# Altium schematic symbol library KX1_DB.SCHLIB: 19 symbols
Pins are listed as number, name and electrical type; pins without a type are passive.

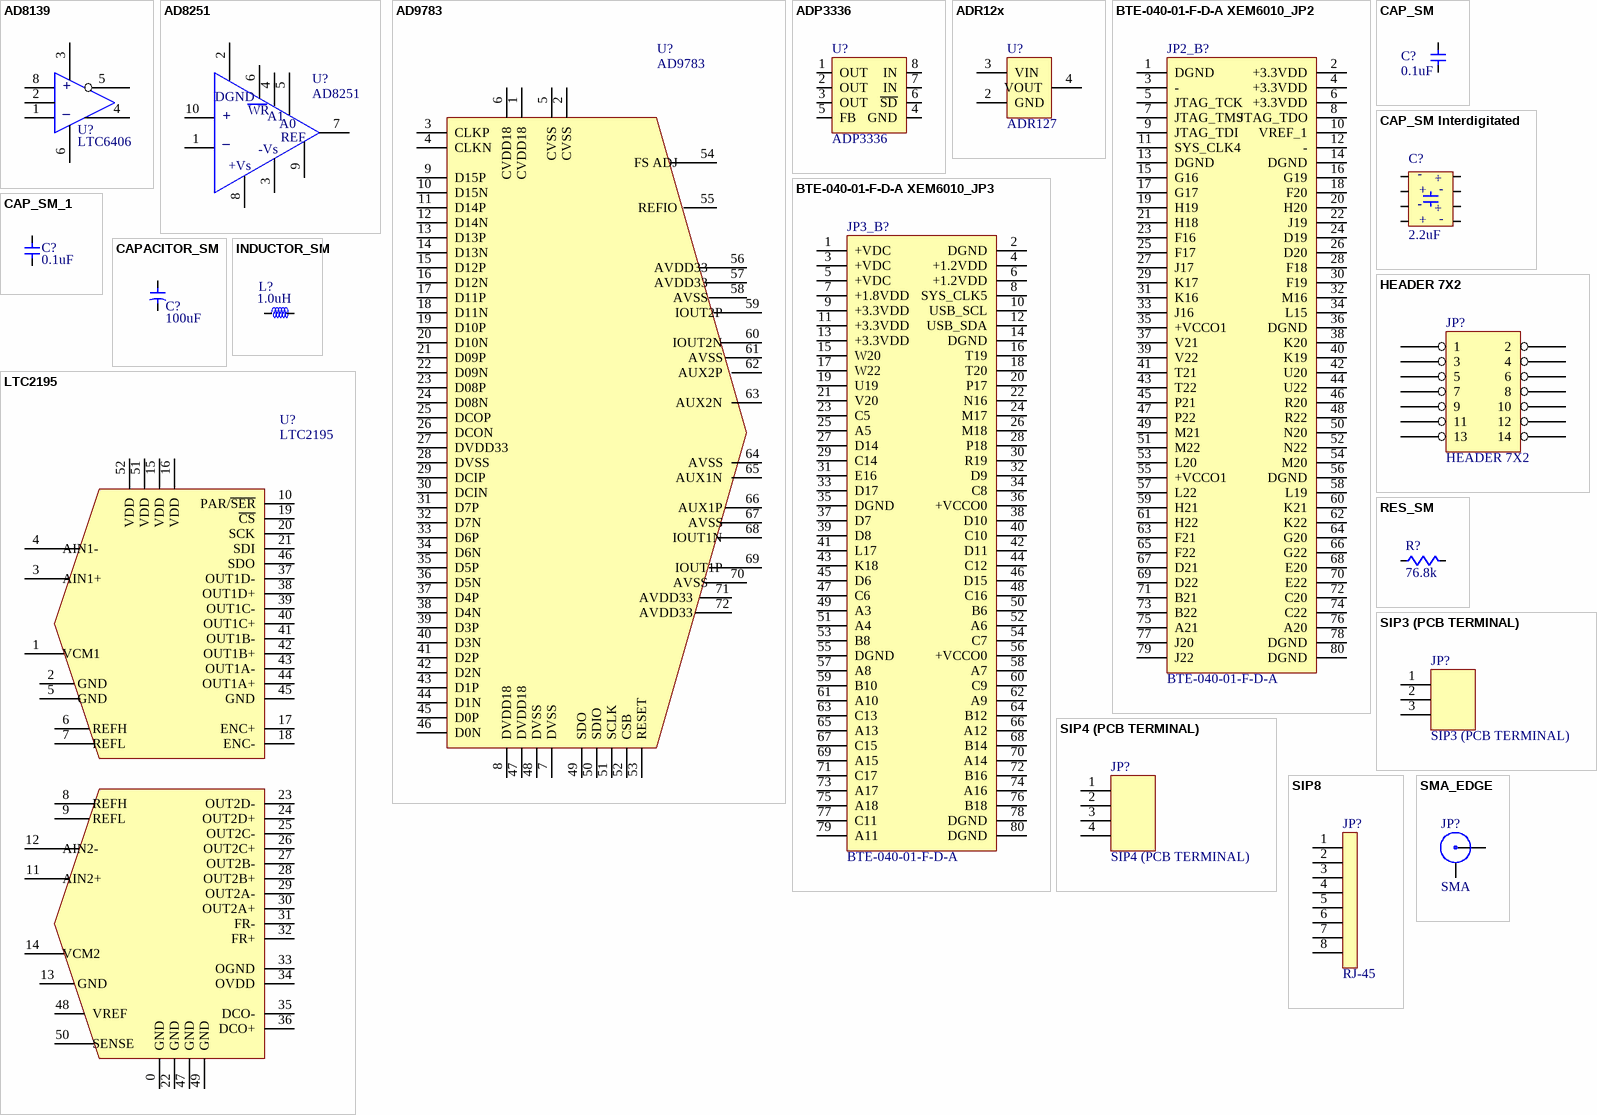
[diagram p0: symbols AD8139 to SMA_EDGE]

## AD8139
designator U?, comment LTC6406
Differential ADC Driver; Supplier 1: Digi-Key; Supplier Part Number 1: LTC6406CMS8E#PBF-ND
footprint soic8
footprint MSOP08
pins: 1, 2, 3, 4, 5, 6, 8
text: +; _

## AD8251
designator U?
IC AMP INST ICMOS LDRIFT 10MSOP; Supplier 1: Digi-Key; Supplier Part Number 1: AD8251ARMZ-ND
footprint MSOP10sm (AD8351)
pins: 1, 2, 3, 4, 5, 6, 7, 8, 9, 10
text: DGND; WR; +; A1; A0; _; REF; -Vs; +Vs

## AD9783
designator U?
DAC LVDS DUAL16BIT 500MSPS; Supplier 1: Digi-Key; Supplier Part Number 1: AD9783BCPZ-ND
footprint LFCSP72
pins: 1 CVDD18, 2 CVSS, 3 CLKP, 4 CLKN, 5 CVSS, 6 CVDD18, 7 DVSS, 8 DVDD18, 9 D15P, 10 D15N, 11 D14P, 12 D14N, 13 D13P, 14 D13N, 15 D12P, 16 D12N, 17 D11P, 18 D11N, 19 D10P, 20 D10N, 21 D09P, 22 D09N, 23 D08P, 24 D08N, 25 DCOP, 26 DCON, 27 DVDD33, 28 DVSS, 29 DCIP, 30 DCIN, 31 D7P, 32 D7N, 33 D6P, 34 D6N, 35 D5P, 36 D5N, 37 D4P, 38 D4N, 39 D3P, 40 D3N, 41 D2P, 42 D2N, 43 D1P, 44 D1N, 45 D0P, 46 D0N, 47 DVDD18, 48 DVSS, 49 SDO, 50 SDIO, 51 SCLK, 52 CSB, 53 RESET, 54 FS ADJ, 55 REFIO, 56 AVDD33, 57 AVDD33, 58 AVSS, 59 IOUT2P, 60 IOUT2N, 61 AVSS, 62 AUX2P, 63 AUX2N, 64 AVSS, 65 AUX1N, 66 AUX1P, 67 AVSS, 68 IOUT1N, 69 IOUT1P, 70 AVSS, 71 AVDD33, 72 AVDD33

## ADP3336
designator U?
regulator; Manufacturer: Analog Devices Inc; Manufacturer Part Number: ADP3336ARMZ-REEL7; Regulator Topology: Positive Adjustable; Voltage - Output: 1.5 V ~ 10 V; Voltage - Input: 2.6 V ~ 12 V; Voltage - Dropout (Typical): 0.2V @ 500mA; Number of Regulators: 1; Current - Output: 500mA; Supplier 1: Digi-Key; Supplier Part Number 1: ADP3336ARMZ-REEL7CT-ND; RoHS: RoHS Compliant; Category: Integrated Circuits (ICs); Stock 1: 10613; Pricing 1: 1=3.22, 25=2.484, 100=2.254, 250=2.024, 500=1.748 (USD); Current - Limit (Min): -; Operating Temperature: -40°C ~ 85°C; Mounting Type: Surface Mount; Package / Case: 8-TSSOP, 8-MSOP (0.118", 3.00mm Width); Supplier Device Package: 8-MSOP; Packaging: Cut Tape (CT); ComponentLink1URL: http://www.analog.com/static/imported-files/data_sheets/ADP3336.pdf; ComponentLink1Description: http://www.analog.com/static/imported-files/data_sheets/ADP3336.pdf
footprint MSOP08
pins: 1 OUT, 2 OUT, 3 OUT, 4 GND, 5 FB, 6 ~{SD}, 7 IN, 8 IN

## ADR12x
designator U?, comment ADR127
Voltage Reference; Manufacturer: Analog Devices Inc; Manufacturer Part Number: ADR127AUJZ-REEL7; Reference Type: Series, Precision; Voltage - Output: 1.25V; Tolerance: ±0.24%; Temperature Coefficient: 25ppm/°C; Voltage - Input: 2.7 V ~ 18 V; Number of Channels: 1; Current - Quiescent: 95µA; Current - Output: 5mA; Supplier 1: Digi-Key; Supplier Part Number 1: ADR127AUJZ-REEL7CT-ND; RoHS: RoHS Compliant; Category: Integrated Circuits (ICs); Stock 1: 17098; Pricing 1: 1=3.22, 25=2.484, 100=2.254, 250=2.024, 500=1.748 (USD); Current - Cathode: -; Operating Temperature: -40°C ~ 125°C; Mounting Type: Surface Mount; Package / Case: TSOT-23-6, TSOT-6; Supplier Device Package: TSOT-6; Packaging: Cut Tape (CT); ComponentLink1URL: http://www.analog.com/static/imported-files/Data_Sheets/ADR121_125_127.pdf; ComponentLink1Description: http://www.analog.com/static/imported-files/Data_Sheets/ADR121_125_127.pdf
footprint TSOT-6
pins: 1 NC hidden, 2 GND, 3 VIN, 4 VOUT, 5 NC hidden, 6 NC hidden

## BTE-040-01-F-D-A XEM6010_JP2
designator JP2_B?, comment BTE-040-01-F-D-A
Samtec Connector 0.8mm 80pin; Supplier 1: Newark; Supplier Part Number 1: 89M7080
footprint BTE-040-01-F-D-A (Samtec Surface Mount Micro Terminal Strip)
pins: 1 DGND, 2 +3.3VDD, 3 -, 4 +3.3VDD, 5 JTAG_TCK, 6 +3.3VDD, 7 JTAG_TMS, 8 JTAG_TDO, 9 JTAG_TDI, 10 VREF_1, 11 SYS_CLK4, 12 -, 13 DGND, 14 DGND, 15 G16, 16 G19, 17 G17, 18 F20, 19 H19, 20 H20, 21 H18, 22 J19, 23 F16, 24 D19, 25 F17, 26 D20, 27 J17, 28 F18, 29 K17, 30 F19, 31 K16, 32 M16, 33 J16, 34 L15, 35 +VCCO1, 36 DGND, 37 V21, 38 K20, 39 V22, 40 K19, 41 T21, 42 U20, 43 T22, 44 U22, 45 P21, 46 R20, 47 P22, 48 R22, 49 M21, 50 N20, 51 M22, 52 N22, 53 L20, 54 M20, 55 +VCCO1, 56 DGND, 57 L22, 58 L19, 59 H21, 60 K21, 61 H22, 62 K22, 63 F21, 64 G20, 65 F22, 66 G22, 67 D21, 68 E20, 69 D22, 70 E22, 71 B21, 72 C20, 73 B22, 74 C22, 75 A21, 76 A20, 77 J20, 78 DGND, 79 J22, 80 DGND

## BTE-040-01-F-D-A XEM6010_JP3
designator JP3_B?, comment BTE-040-01-F-D-A
Samtec Connector 0.8mm 80pin; Supplier 1: Newark; Supplier Part Number 1: 89M7080
footprint BTE-040-01-F-D-A (Samtec Surface Mount Micro Terminal Strip)
pins: 1 +VDC, 2 DGND, 3 +VDC, 4 +1.2VDD, 5 +VDC, 6 +1.2VDD, 7 +1.8VDD, 8 SYS_CLK5, 9 +3.3VDD, 10 USB_SCL, 11 +3.3VDD, 12 USB_SDA, 13 +3.3VDD, 14 DGND, 15 W20, 16 T19, 17 W22, 18 T20, 19 U19, 20 P17, 21 V20, 22 N16, 23 C5, 24 M17, 25 A5, 26 M18, 27 D14, 28 P18, 29 C14, 30 R19, 31 E16, 32 D9, 33 D17, 34 C8, 35 DGND, 36 +VCCO0, 37 D7, 38 D10, 39 D8, 40 C10, 41 L17, 42 D11, 43 K18, 44 C12, 45 D6, 46 D15, 47 C6, 48 C16, 49 A3, 50 B6, 51 A4, 52 A6, 53 B8, 54 C7, 55 DGND, 56 +VCCO0, 57 A8, 58 A7, 59 B10, 60 C9, 61 A10, 62 A9, 63 C13, 64 B12, 65 A13, 66 A12, 67 C15, 68 B14, 69 A15, 70 A14, 71 C17, 72 B16, 73 A17, 74 A16, 75 A18, 76 B18, 77 C11, 78 DGND, 79 A11, 80 DGND

## CAP_SM
designator C?, comment 0.1uF
capacitor; Manufacturer: Kemet; Manufacturer Part Number: C0603C104K3RACTU; Capacitance: 0.1µF; Temperature Coefficient: X7R; Tolerance: ±10%; Voltage - Rated: 25V; Applications: General Purpose; Category: Capacitors; ComponentLink1Description: http://www.kemet.com/datasheets&C0603C104K3RACTU; ComponentLink1URL: http://www.kemet.com/datasheets&C0603C104K3RACTU; Features: -; Lead Spacing: -; Lead Style: -; Mounting Type: Surface Mount, MLCC; Operating Temperature: -55°C ~ 125°C; Package / Case: 0603 (1608 Metric); Packaging: Cut Tape (CT); Pricing 1: 10=0.075, 100=0.027, 250=0.01952, 500=0.0144, 1000=0.00975 (USD); Ratings: -; RoHS: RoHS Compliant; Size / Dimension: 0.063" L x 0.032" W (1.60mm x 0.80mm); Stock 1: 2338960; Supplier 1: Digi-Key; Supplier Part Number 1: 399-1281-1-ND; Thickness: 0.80mm
footprint 1206
footprint 0603w
footprint 0603
pins: 1, 2

## CAP_SM Interdigitated
designator C?, comment 2.2uF
INTERDIGITATED capacitor; Manufacturer: TDK Corporation; Manufacturer Part Number: CLLE1AX7S0G225M/0.95; Capacitance: 2.2µF; Voltage - Rated: 4V; Tolerance: ±20%; Temperature Coefficient: X7S; Supplier 1: Digi-Key; Supplier Part Number 1: 445-3406-1-ND; RoHS: RoHS Compliant; Category: Capacitors; Stock 1: 11249; Pricing 1: 1=0.68, 10=0.54, 100=0.325, 250=0.24376, 500=0.208, 1000=0.1625 (USD); Mounting Type: Surface Mount, MLCC; Operating Temperature: -55°C ~ 125°C; Applications: General Purpose; Ratings: -; Package / Case: 0805 (2012 Metric); Size / Dimension: 0.079" L x 0.049" W (2.00mm x 1.25mm); Height: -; Thickness: 0.037" (0.95mm); Lead Spacing: -; Features: Low ESL (Multi-Terminal); Packaging: Cut Tape (CT); Lead Style: -; ComponentLink1URL: http://www.tdk.com/pdf/uli_A11.pdf; ComponentLink1Description: http://www.tdk.com/pdf/uli_A11.pdf
footprint 0805 CLL (Interdigitated Capacitor)
pins: 1, 2, 3, 4, 5, 6, 7, 8
text: +

## CAP_SM_1
designator C?, comment 0.1uF
capacitor; Manufacturer: Kemet; Manufacturer Part Number: C0603C104K3RACTU; Capacitance: 0.1µF; Temperature Coefficient: X7R; Tolerance: ±10%; Voltage - Rated: 25V; Applications: General Purpose; Category: Capacitors; ComponentLink1Description: http://www.kemet.com/datasheets&C0603C104K3RACTU; ComponentLink1URL: http://www.kemet.com/datasheets&C0603C104K3RACTU; Features: -; Lead Spacing: -; Lead Style: -; Mounting Type: Surface Mount, MLCC; Operating Temperature: -55°C ~ 125°C; Package / Case: 0603 (1608 Metric); Packaging: Cut Tape (CT); Pricing 1: 10=0.075, 100=0.027, 250=0.01952, 500=0.0144, 1000=0.00975 (USD); Ratings: -; RoHS: RoHS Compliant; Size / Dimension: 0.063" L x 0.032" W (1.60mm x 0.80mm); Stock 1: 2338960; Supplier 1: Digi-Key; Supplier Part Number 1: 399-1281-1-ND; Thickness: 0.80mm
footprint 1206
footprint 0603w
pins: 1, 2

## CAPACITOR_SM
designator C?, comment 100uF
capacitor; Manufacturer: TDK Corporation; Manufacturer Part Number: C3216X5R0J107M; Capacitance: 100µF; Voltage - Rated: 6.3V; Tolerance: ±20%; Temperature Coefficient: X5R; Supplier 1: Digi-Key; Supplier Part Number 1: 445-6008-1-ND; RoHS: RoHS Compliant; Category: Capacitors; Stock 1: 10697; Pricing 1: 1=1.24, 10=1.034, 100=0.759, 250=0.66, 500=0.616, 1000=0.484 (USD); Mounting Type: Surface Mount, MLCC; Operating Temperature: -55°C ~ 85°C; Applications: General Purpose; Ratings: -; Package / Case: 1206 (3216 Metric); Size / Dimension: 0.126" L x 0.063" W (3.20mm x 1.60mm); Height: -; Thickness: 0.071" (1.80mm); Lead Spacing: -; Features: Low ESR; Packaging: Cut Tape (CT); Lead Style: -; ComponentLink1URL: http://www.tdk.com/pdf/general_A11.pdf; ComponentLink1Description: http://www.tdk.com/pdf/general_A11.pdf
footprint 1206
pins: 1, 2

## HEADER 7X2
designator JP?
14 pin 2mm IDC connector; Supplier 1: Digi-Key; Supplier Part Number 1: WM18641-ND
footprint IDC14 SM 2MM (MOLEX 87832-1420)
pins: 1, 2, 3, 4, 5, 6, 7, 8, 9, 10, 11, 12, 13, 14

## INDUCTOR_SM
designator L?, comment 1.0uH
inductor; Manufacturer: Murata Electronics North America; Manufacturer Part Number: LQM21FN1R0N00D; Current: 220mA; DC Resistance (DCR): 260 mOhm Max; Frequency - Test: 1MHz; Inductance: 1µH; Self Resonant Freq: 105MHz; Shielding: Shielded; Tolerance: ±30%; Current - Saturation: -; Current - Temperature Rise: -; Mounting Type: Surface Mount; Operating Temperature: -40°C ~ 85°C; Package / Case: 0805 (2012 Metric); Packaging: Cut Tape (CT); Q @ Freq: -; RoHS: RoHS Compliant; Type: -; Supplier 1: Digi-Key; Supplier Part Number 1: 490-4026-1-ND; Stock 1: 0; Pricing 1: 1=0.11, 10=0.104, 50=0.0972, 100=0.0907, 500=0.07122, 1000=0.05828 (USD); Material - Core: -
footprint 1008 (sm inductor)
footprint 1206
footprint 1210
footprint 0805
pins: 1, 2

## LTC2195
designator U?
16 bit, low power, dual ADC; Supplier 1: Digi-Key; Supplier Part Number 1: LTC2195CUKG#PBF-ND
footprint UKG - QFN52
pins: 0 GND, 1 VCM1, 2 GND, 3 AIN1+, 4 AIN1-, 5 GND, 6 REFH, 7 REFL, 8 REFH, 9 REFL, 10 PAR/~{SER}, 11 AIN2+, 12 AIN2-, 13 GND, 14 VCM2, 15 VDD, 16 VDD, 17 ENC+, 18 ENC-, 19 ~{CS}, 20 SCK, 21 SDI, 22 GND, 23 OUT2D-, 24 OUT2D+, 25 OUT2C-, 26 OUT2C+, 27 OUT2B-, 28 OUT2B+, 29 OUT2A-, 30 OUT2A+, 31 FR-, 32 FR+, 33 OGND, 34 OVDD, 35 DCO-, 36 DCO+, 37 OUT1D-, 38 OUT1D+, 39 OUT1C-, 40 OUT1C+, 41 OUT1B-, 42 OUT1B+, 43 OUT1A-, 44 OUT1A+, 45 GND, 46 SDO, 47 GND, 48 VREF, 49 GND, 50 SENSE, 51 VDD, 52 VDD

## RES_SM
designator R?, comment 76.8k
resistor; Manufacturer: Yageo; Manufacturer Part Number: RC0603FR-0776K8L; Power (Watts): 0.1W, 1/10W; Temperature Coefficient: ±100ppm/°C; Tolerance: ±1%; Supplier 1: Digi-Key; Supplier Part Number 1: 311-76.8KHRCT-ND; RoHS: RoHS Compliant; Category: Resistors; Stock 1: 91480; Pricing 1: 10=0.014, 50=0.0104, 100=0.0079, 250=0.00584, 500=0.00432, 1000=0.00288 (USD); Resistance (Ohms): 76.8K; Composition: Thick Film; Features: -; Size / Dimension: 0.063" L x 0.031" W (1.60mm x 0.80mm); Height: 0.018" (0.45mm); Number of Terminations: 2; Packaging: Cut Tape (CT); Package / Case: 0603 (1608 Metric); ComponentLink1URL: http://www.yageo.com/documents/recent/PYu-RC0603_51_RoHS_L_4.pdf; ComponentLink1Description: http://www.yageo.com/documents/recent/PYu-RC0603_51_RoHS_L_4.pdf
footprint 1206
footprint 0603w
pins: 1, 2

## SIP3 (PCB TERMINAL)
designator JP?
3 pin molex connector; Supplier 1: Digi-Key; Supplier Part Number 1: WM2745-ND
footprint PCBTERMINAL3
footprint SIP3MOLEX
pins: 1, 2, 3

## SIP4 (PCB TERMINAL)
designator JP?
4 pin molex connector; Manufacturer: Molex Inc; Connector Type: Header, Unshrouded; Number of Positions: 4; Number of Positions Loaded: All; Pitch: 0.100" (2.54mm); Supplier 1: Digi-Key; Supplier Part Number 1: WM2746-ND; Manufacturer Part Number: 22-29-2041; RoHS: RoHS Compliant; Category: Connectors, Interconnects; Stock 1: 6126; Pricing 1: 1=0.95, 10=0.664, 50=0.5124, 100=0.446, 250=0.3796, 500=0.36062, 1000=0.32266, 2500=0.25623, 5000=0.25243 (USD); Contact Type: Male Pin; Number of Rows: 1; Row Spacing: -; Contact Mating Length: 0.295" (7.49mm); Mounting Type: Through Hole; Termination: Solder; Fastening Type: Friction Lock; Features: -; Contact Finish: Gold; Contact Finish Thickness: 20µin (0.51µm); Color: White; Packaging: Bulk; ComponentLink1URL: http://www.molex.com/pdm_docs/sd/022292041_sd.pdf; ComponentLink1Description: http://www.molex.com/pdm_docs/sd/022292041_sd.pdf
footprint SIP4POWER
footprint SIP4MOLEX
pins: 1, 2, 3, 4

## SIP8
designator JP?, comment RJ-45
ethernet connector; Supplier 1: Digi-Key; Supplier Part Number 1: RJSSE-5080-ND
footprint Mod_jack_ethernet
footprint SMD_ETHERNET (Amphenol RJSSE-5080)
pins: 1, 2, 3, 4, 5, 6, 7, 8

## SMA_EDGE
designator JP?, comment SMA
sma connector; Manufacturer: TE Connectivity; Manufacturer Part Number: 5-1814832-1; Connector Type: Jack, Female Sockets; Contact Termination: Solder; Impedance: 50 Ohm; Frequency - Max: 3GHz; Supplier 1: Digi-Key; Supplier Part Number 1: A97594-ND; RoHS: RoHS Compliant; Category: Connectors, Interconnects; Stock 1: 22563; Pricing 1: 1=2.7, 25=2.322, 50=2.052, 100=1.836, 250=1.62, 500=1.4364 (USD); Connector Style: SMA; Mounting Type: Through Hole; Fastening Type: Threaded; Cable Group: -; Features: -; Color: -; Packaging: Bulk; ComponentLink1URL: http://documents.tycoelectronics.com/commerce/DocumentDelivery/DDEController?Action=srchrtrv&DocNm=1814832&DocType=CD&DocLang=EN; ComponentLink1Description: http://documents.tycoelectronics.com/commerce/DocumentDelivery/DDEController?Action=srchrtrv&DocNm=1814832&DocType=CD&DocLang=EN
footprint sma_edge
footprint sma_pcb_200
pins: 0 ground hidden, 0 ground, 1 signal